# Altium footprint library 14PIN FLATPACK.PcbLib: 1 footprints
Each footprint in its own frame and in the unit in brackets; x right, y up, seen from the top. Pads: shape width x height; smd on the part's side, far side on the other; paste and mask are expansions set on the pad; w line width, h text height; cw(c..) or ccw(c..) is an arc to the next point about the centre after c.
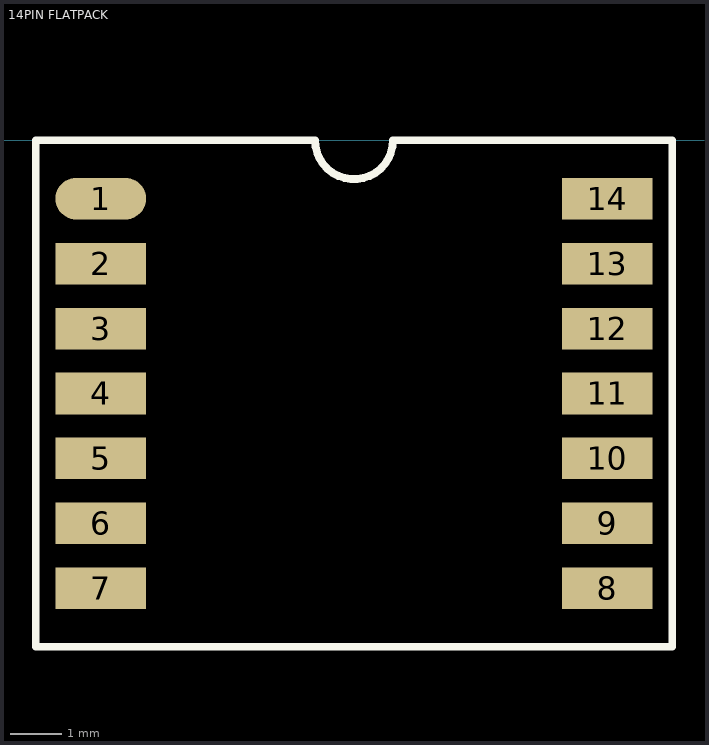
[diagram p0: the footprint, top view; thin cyan lines are the x and y axes]

## 14PIN FLATPACK [mil]
pads (14):
  oval 70x32 smd: 1(85,-45)
  rect 70x32 smd: 2(85,-95) 3(85,-145) 4(85,-195) 5(85,-245) 6(85,-295) 7(85,-345) 8(475,-345) 9(475,-295) 10(475,-245) 11(475,-195) 12(475,-145) 13(475,-95) 14(475,-45)
Top Overlay:
  lines w6: 35,-390 525,-390 525,0 310,0 cw(c280,0) 250,0 35,0 35,-390
3D body: height 90, standoff 0, extent 150,-390 410,0